# EAGLE library part CM1624-08DE (library other_ic)
Source: Datasheet <http://www.onsemi.com/pub/Collateral/CM1624-D.PDF>
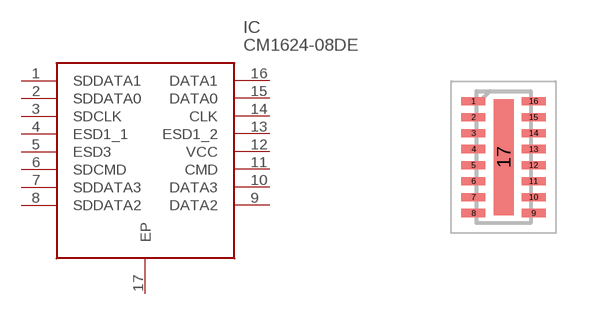
[diagram p0: symbol with the pads of SON40P135X330X55-17N; footprint SON40P135X330X55-17N]

Designator prefix IC

## CM1624-08DE (ALLIED_NUMBER: 70465928; ALLIED_PRICE-STOCK: http://www.alliedelec.com/on-semiconductor-cm1624-08de/70465928/; HEIGHT: 0.55mm; MANUFACTURER_NAME: ON Semiconductor; MANUFACTURER_PART_NUMBER: CM1624-08DE; MOUSER_PART_NUMBER: 748-CM1624-08DE; MOUSER_PRICE-STOCK: https://www.mouser.com/Search/Refine.aspx?Keyword=748-CM1624-08DE; RS_PART_NUMBER: 8009960P; RS_PRICE-STOCK: http://uk.rs-online.com/web/p/products/8009960P)  [SON40P135X330X55-17N]
1  SDDATA1
2  SDDATA0
3  SDCLK  in
4  ESD1_1
5  ESD3
6  SDCMD
7  SDDATA3
8  SDDATA2
9  DATA2
10  DATA3
11  CMD
12  VCC  pwr
13  ESD1_2
14  CLK  in
15  DATA0
16  DATA1
17  EP  pwr

## Footprint SON40P135X330X55-17N (pad centres in mm)
UDFN16 3.3X1.35 .4P CASE 517BE-01
smd 0.6 x 0.2: 1 -0.75,1.4; 2 -0.75,1; 3 -0.75,0.6; 4 -0.75,0.2; 5 -0.75,-0.2; 6 -0.75,-0.6; 7 -0.75,-1; 8 -0.75,-1.4; 9 0.75,-1.4; 10 0.75,-1; 11 0.75,-0.6; 12 0.75,-0.2; 13 0.75,0.2; 14 0.75,0.6; 15 0.75,1; 16 0.75,1.4
smd 0.5 x 2.9: 17 0,0